# EAGLE library part IC_PCF2123 (library akita)
RTC
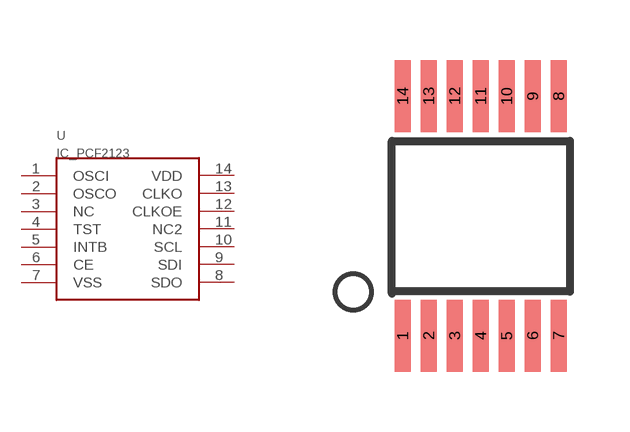
[diagram p19: symbol with the pads of TSSOP14; footprint TSSOP14]

Designator prefix -

## IC_PCF2123TSOP14  [TSSOP14]
1  OSCI
2  OSCO
3  NC
4  TST
5  INTB
6  CE
7  VSS
8  SDO
9  SDI
10  SCL
11  NC2
12  CLKOE
13  CLKO
14  VDD

## Footprint TSSOP14 (pad centres in mm)
smd 0.4 x 1.8: 1 -1.625,-3; 2 -0.975,-3; 3 -0.325,-3; 4 0.325,-3; 5 0.975,-3; 6 1.625,-3; 7 2.275,-3; 8 2.275,3; 9 1.625,3; 10 0.975,3; 11 0.325,3; 12 -0.325,3; 13 -0.975,3; 14 -1.625,3